# Altium schematic symbol library TRANS-NPN.Schlib: 1 symbol
Pins are listed as number, name and electrical type; pins without a type are passive.

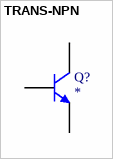
[diagram p0: symbol TRANS-NPN]

## TRANS-NPN
designator Q?
pins: B, C, E